# Altium footprint library CONN_RECT.PcbLib: 7 footprints
Each footprint in its own frame and in the unit in brackets; x right, y up, seen from the top. Pads: shape width x height; smd on the part's side, far side on the other; paste and mask are expansions set on the pad; w line width, h text height; cw(c..) or ccw(c..) is an arc to the next point about the centre after c.
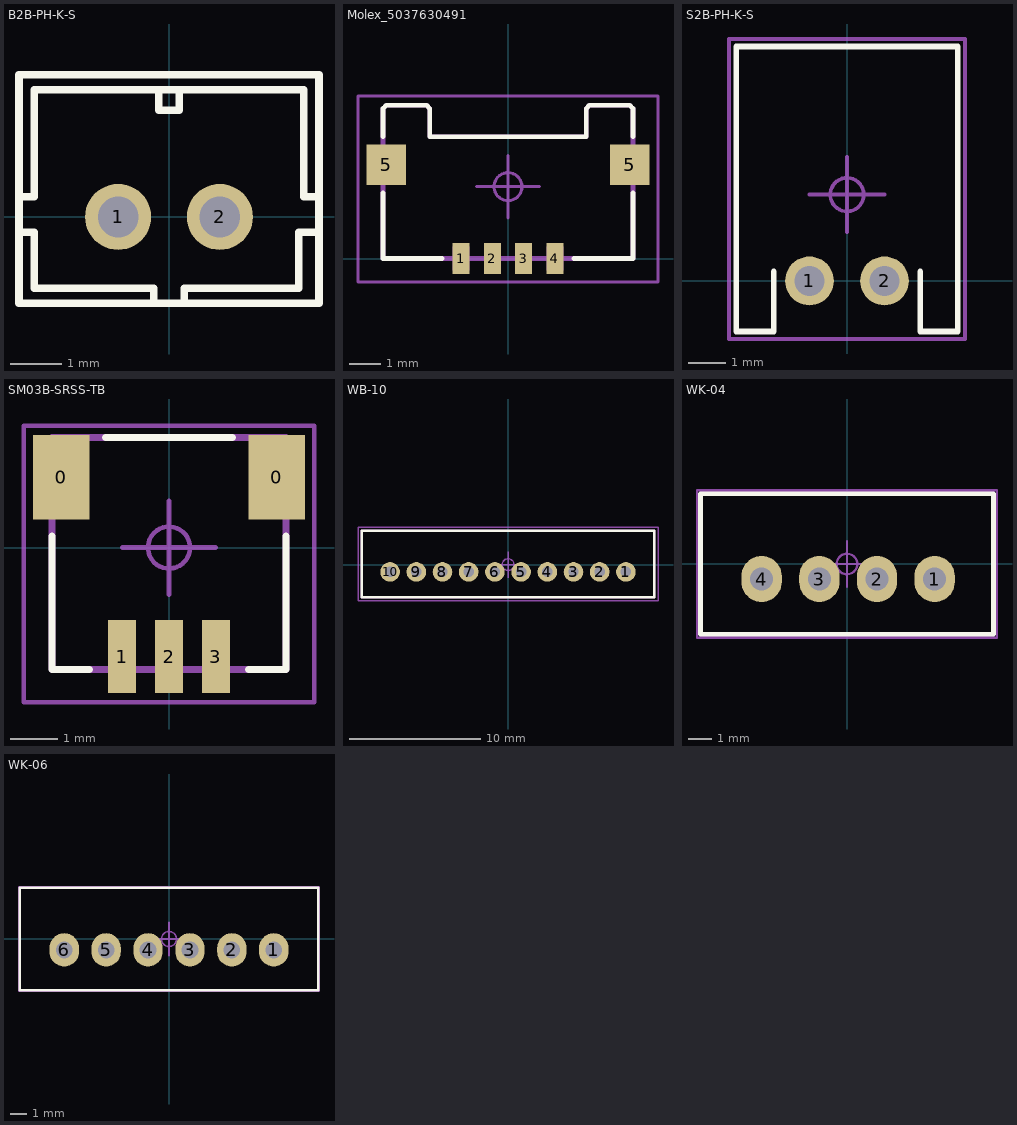
[diagram p0: the footprints below, top view; thin cyan lines are the x and y axes]

## B2B-PH-K-S [mm]
pads (2):
  round 1.3 hole 0.8: 1(-1,0) 2(1,0)
Top Overlay:
  lines w0.15: -0.3,-1.7 -0.3,-1.4 -2.65,-1.4 -2.65,-0.3 -2.95,-0.3 -2.95,0.4 -2.65,0.4 -2.65,2.5 2.65,2.5 2.65,0.4 2.95,0.4 ; -0.2,2.5 -0.2,2.1 0.2,2.1 0.2,2.5 ; 0.3,-1.7 0.3,-1.4 2.55,-1.4 2.55,-0.3 2.95,-0.3 ; -2.95,-1.7 2.95,-1.7 2.95,2.8 -2.95,2.8 -2.95,-1.7
3D body "B2B-PH-K-S.step": height 6.05, standoff -3.35, extent -2.95,-1.7 2.95,2.8

## Molex_5037630491 [mm]
pads (6):
  rect 0.55x1 smd: 1(-1.5,0) 2(-0.5,0) 3(0.5,0) 4(1.5,0)
  rect 1.26x1.3 smd: 5(-3.9,3) 5(3.9,3)
Top Overlay:
  lines w0.15: -4,2.1 -4,0 -2.1,0 ; -4,3.9 -4,4.8 -3.9,4.9 -2.6,4.9 -2.5,4.8 -2.5,3.9 2.5,3.9 2.5,4.8 2.6,4.9 3.9,4.9 4,4.8 4,3.9 ; 2.1,0 4,0 4,2.1
Mechanical 14:
  lines w0.15: -1.7,0.3 -1.3,0.3 ; -1.7,0.35 -1.7,-0.35 -1.3,-0.35 -1.3,0.35 ; -0.7,0.3 -0.3,0.3 ; -0.7,0.35 -0.7,-0.35 -0.3,-0.35 -0.3,0.35 ; 0.3,0.3 0.7,0.3 ; 0.3,0.35 0.3,-0.35 0.7,-0.35 0.7,0.35 ; 1.3,0.3 1.7,0.3 ; 1.3,0.35 1.3,-0.35 1.7,-0.35 1.7,0.35 ; -4,0 4,0 4,4.8 3.9,4.9 2.6,4.9 2.5,4.8 2.5,3.9 -2.5,3.9 -2.5,4.8 -2.6,4.9 -3.9,4.9 -4,4.8 -4,0
  text ".Designator" at -1.2,1.8 h1
Mechanical 15:
  circle w0.1: c0,2.3 r0.447
  lines w0.1: -1,2.3 1,2.3 ; 0,1.3 0,3.3 ; -4.8,-0.75 4.8,-0.75 4.8,5.2 -4.8,5.2 -4.8,-0.75
3D body "5037630491.stp": height 1.48, standoff -0.02, extent -4.3,-0.29 4.3,4.9

## S2B-PH-K-S [mm]
pads (2):
  round 1.3 hole 0.8: 1(-1,0) 2(1,0)
Top Overlay:
  lines w0.15: -1.95,0.25 -1.95,-1.35 -2.95,-1.35 -2.95,6.25 2.95,6.25 2.95,-1.35 1.95,-1.35 1.95,0.25
Mechanical 14:
  text ".Designator" at -1.4,1.85 h1
Mechanical 15:
  circle w0.1: c0,2.3 r0.447
  lines w0.1: -1,2.3 1,2.3 ; 0,1.3 0,3.3 ; -3.15,-1.55 3.15,-1.55 3.15,6.45 -3.15,6.45 -3.15,-1.55
3D body "S2B-PH-K-S.step": height 4.85, standoff -3.35, extent -2.95,-1.35 2.95,6.25

## SM03B-SRSS-TB [mm]
pads (5):
  rect 1.2x1.8 smd: 0(-2.3,1.5) 0(2.3,1.5)
  rect 0.6x1.55 smd: 1(-1,-2.325) 2(0,-2.325) 3(1,-2.325)
Top Overlay:
  lines w0.15: -2.5,0.25 -2.5,-2.6 -1.7,-2.6 ; -1.35,2.35 1.35,2.35 ; 1.7,-2.6 2.5,-2.6 2.5,0.25
Mechanical 14:
  lines w0.15: -1.2,-2.325 -0.8,-2.325 ; -1.2,-2.275 -1.2,-2.975 -0.8,-2.975 -0.8,-2.275 ; -0.2,-2.325 0.2,-2.325 ; -0.2,-2.275 -0.2,-2.975 0.2,-2.975 0.2,-2.275 ; 0.8,-2.325 1.2,-2.325 ; 0.8,-2.275 0.8,-2.975 1.2,-2.975 1.2,-2.275 ; -2.5,-2.6 -2.5,2.345 2.5,2.345 2.5,-2.6 -2.5,-2.6
  text ".Designator" at -0.7,-0.525 h1
Mechanical 15:
  circle w0.1: c0,0 r0.447
  lines w0.1: -1,0 1,0 ; 0,-1 0,1 ; -3.1,-3.3 -3.1,2.6 3.1,2.6 3.1,-3.3 -3.1,-3.3
3D body "SM03B-SRSS-TB.STEP": height 2.95, standoff -0.01, extent -2.5,-2.63 2.5,2.32

## WB-10 [mm] "WR connector 10 pins"
height 6.1
pads (10):
  round 1.5 hole 0.8: 1(9,-0.55) 2(7,-0.55) 3(5,-0.55) 4(3,-0.55) 5(1,-0.55) 6(-1,-0.55) 7(-3,-0.55) 8(-5,-0.55) 9(-7,-0.55) 10(-9,-0.55)
Top Overlay:
  lines w0.2: -11.175,-2.475 11.175,-2.475 11.175,2.575 -11.175,2.575 -11.175,-2.475
Mechanical 13:
  lines w0.2: -11.175,-2.475 -11.175,2.575 11.175,2.575 11.175,-2.475 -11.175,-2.475
Mechanical 14:
  lines w0.1: -11.45,-2.75 -11.45,2.85 11.45,2.85 11.45,-2.75 -11.45,-2.75
  text ".Designator" at -1.8,-0.9 h1
Mechanical 15:
  circle w0.1: c0,0 r0.447
  lines w0.1: -1,0 1,0 ; 0,-1 0,1 ; -11.45,-2.75 11.45,-2.75 11.45,2.85 -11.45,2.85 -11.45,-2.75
3D body "WR-WTB 2.0mm 10pin.stp": height 6.15, standoff -3.35, extent -11,-2.3 11,2.4

## WK-04 [mm] "WK connector 4 pins"
height 7
pads (4):
  oval 1.75x2 hole 1: 1(3.8,-0.65) 2(1.3,-0.65) 3(-1.2,-0.65) 4(-3.7,-0.65)
Top Overlay:
  lines w0.2: -6.35,-3.05 6.35,-3.05 6.35,3.05 -6.35,3.05 -6.35,-3.05
Mechanical 14:
  lines w0.2: -6.35,-3.05 -6.35,3.05 6.35,3.05 6.35,-3.05 -6.35,-3.05
  text ".Designator" at -3.525,-1.125 h1
Mechanical 15:
  circle w0.1: c0,0 r0.447
  lines w0.1: -1,0 1,0 ; 0,-1 0,1 ; -6.5,-3.2 6.5,-3.2 6.5,3.2 -6.5,3.2 -6.5,-3.2
3D body "User Library-CWF-4.step": height 7, standoff -3.5, extent -6.2,-2.85 6.2,2.9

## WK-06 [mm] "WK connector 6 pins"
height 7
pads (6):
  oval 1.75x2 hole 1: 1(6.25,-0.65) 2(3.75,-0.65) 3(1.25,-0.65) 4(-1.25,-0.65) 5(-3.75,-0.65) 6(-6.25,-0.65)
Top Overlay:
  lines w0.15: -8.9,-3.05 8.9,-3.05 8.9,3.05 -8.9,3.05 -8.9,-3.05
Mechanical 14:
  lines w0.1: -8.9,-3.05 -8.9,3.05 8.9,3.05 8.9,-3.05 -8.9,-3.05
  text ".Designator" at -3.575,-1.125 h1
Mechanical 15:
  circle w0.1: c0,0 r0.447
  lines w0.1: -1,0 1,0 ; 0,-1 0,1 ; -8.95,-3.1 -8.95,3.1 8.95,3.1 8.95,-3.1 -8.95,-3.1
3D body "User Library-CWF-6.step": height 7, standoff -3.5, extent -8.75,-2.85 8.75,2.9